# Altium footprint library Индикаторы.PcbLib: 8 footprints
Each footprint in its own frame and in the unit in brackets; x right, y up, seen from the top. Pads: shape width x height; smd on the part's side, far side on the other; paste and mask are expansions set on the pad; w line width, h text height; cw(c..) or ccw(c..) is an arc to the next point about the centre after c.
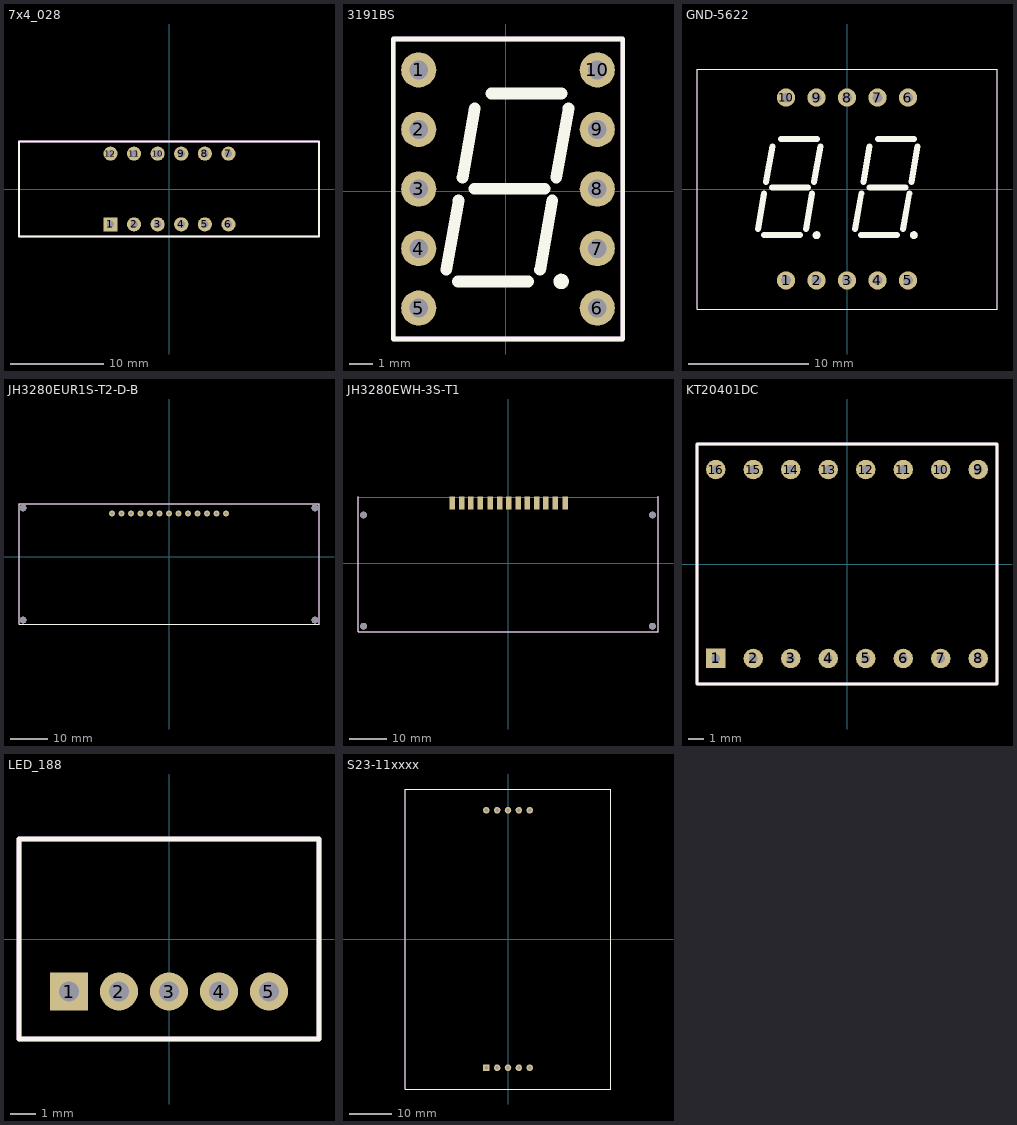
[diagram p0: the footprints below, top view; thin cyan lines are the x and y axes]

## 7x4_028 [mil]
pads (12):
  rect 60x60 hole 31.5: 1(-250,-150)
  round 60 hole 31.5: 2(-150,-150) 3(-50,-150) 4(50,-150) 5(150,-150) 6(250,-150) 7(250,150) 8(150,150) 9(50,150) 10(-50,150) 11(-150,150) 12(-250,150)
Top Overlay:
  lines w7.87: -637.8,-200.79 -637.8,200.79 633.86,200.79 633.86,-200.79 -637.8,-200.79
TopAssy:
  lines w7.87: -637.8,-200.79 633.86,-200.79 633.86,200.79 -637.8,200.79 -637.8,-200.79
  text ".Designator" at -196.85,3.94 h60
3D body "4x7_028.STEP": height 228.35, standoff -39.37, extent -633.85,-198.81 633.87,198.83

## 3191BS [mm]
height 1.5
pads (10):
  round 1.5 hole 0.8: 1(-3.71,5.18) 2(-3.71,2.64) 3(-3.71,0.1) 4(-3.71,-2.44) 5(-3.71,-4.98) 6(3.91,-4.98) 7(3.91,-2.44) 8(3.91,0.1) 9(3.91,2.64) 10(3.91,5.18)
Top Overlay:
  circle w0.15: c2.365,-3.845 r0.257
  circle w0.15: c2.365,-3.845 r0.141
  circle w0.15: c2.365,-3.845 r0.079
  lines w0.2: 2.365,-3.845 2.506,-3.845 ; -4.8,-6.3 5,-6.3 5,6.5 -4.8,6.5 -4.8,-6.3
  lines w0.5: -2.531,-3.345 -2.011,-0.391 ; -2.032,-3.845 0.968,-3.845 ; -1.837,0.594 -1.316,3.549 ; -1.335,0.105 1.665,0.105 ; -0.618,4.17 2.382,4.17 ; 1.469,-3.345 1.989,-0.391 ; 2.163,0.594 2.684,3.549
TopAssy:
  lines w0.2: -4.8,-6.3 -4.8,6.5 5,6.5 5,-6.3 -4.8,-6.3
3D body "User Library-INND-TS40RCB.STEP": height 6.43, standoff -5.33, extent -4.7,-6.37 4.93,6.53

## GND-5622 [mil]
pads (10):
  round 60 hole 31.5: 1(-200,-300) 2(-100,-300) 3(0,-300) 4(100,-300) 5(200,-300) 6(200,300) 7(100,300) 8(0,300) 9(-100,300) 10(-200,300)
Top Overlay:
  circle w5.91: c-99.8,-151.38 r10.13
  circle w5.91: c-99.8,-151.38 r5.57
  circle w5.91: c-99.8,-151.38 r3.11
  circle w5.91: c219.09,-151.38 r10.13
  circle w5.91: c219.09,-151.38 r5.57
  circle w5.91: c219.09,-151.38 r3.11
  lines w3.94: -492.13,-393.7 -492.13,0 -492.13,393.7 492.13,393.7 492.13,0 492.13,-393.7 -492.13,-393.7
  lines w7.87: -99.8,-151.38 -94.24,-151.38 ; 219.09,-151.38 224.66,-151.38
  lines w19.68: -292.58,-131.69 -272.07,-15.38 ; -272.89,-151.38 -154.78,-151.38 ; -265.23,23.39 -244.72,139.71 ; -245.47,4.13 -127.36,4.13 ; -217.25,164.18 -99.14,164.18 ; -135.1,-131.69 -114.59,-15.38 ; -107.75,23.39 -87.24,139.71 ; 26.32,-131.69 46.83,-15.38 ; 46,-151.38 164.11,-151.38 ; 53.67,23.39 74.18,139.71 ; 73.43,4.13 191.54,4.13 ; 101.65,164.18 219.76,164.18 ; 183.8,-131.69 204.31,-15.38 ; 211.15,23.39 231.66,139.71
TopAssy:
  lines w3.94: -492.13,-393.7 492.13,-393.7 492.13,393.7 -492.13,393.7 -492.13,-393.7
  text ".Designator" at -102.36,-19.68 h60
3D body "Светодиодный индикатор GND-5622AS-21.stp": height 318.9, standoff -242.34, extent -488.19,-374.02 496.06,374.02

## JH3280EUR1S-T2-D-B [mm]
pads (17):
  round 1.8 hole 1.8 unplated: 0(-39,-17) 0(-39,13) 0(39,-17) 0(39,13)
  round 1.524 hole 0.8: 1(-15.24,11.5) 2(-12.7,11.5) 3(-10.16,11.5) 4(-7.62,11.5) 5(-5.08,11.5) 6(-2.54,11.5) 7(0,11.5) 8(2.54,11.5) 9(5.08,11.5) 10(7.62,11.5) 11(10.16,11.5) 12(12.7,11.5) 13(15.24,11.5)
Top Overlay:
  lines w0.2: -40.1,-18.1 40.1,-18.1 40.1,14.1 -40.1,14.1 -40.1,-18.1
TopAssy:
  lines w0.2: -40.1,-18.1 40.1,-18.1 40.1,14.1 -40.1,14.1 -40.1,-18.1
  text ".Designator" at -2.5,-0.4 h1.52
3D body "Индикатор JH3280EUR1S-T2-D-B.stp": height 13.8, standoff -4.2, extent -40.1,-17.9 39.9,14.1

## JH3280EWH-3S-T1 [mm]
pads (17):
  round 1.8 hole 1.8 unplated: 0(-39,-17) 0(-39,13) 0(39,-17) 0(39,13)
  rect 1.5x3.6 smd: 1(-15,16.25) 2(-12.5,16.25) 3(-10,16.25) 4(-7.5,16.25) 5(-4.75,16.25) 6(-2.25,16.25) 7(0.25,16.25) 8(2.75,16.25) 9(5.25,16.25) 10(7.75,16.25) 11(10.25,16.25) 12(12.75,16.25) 13(15.5,16.25)
Top Overlay:
  lines w0.2: -40.5,18 -40.5,-18.5 40.5,-18.5 40.5,18
TopAssy:
  lines w0.2: -40.5,17.75 40.5,17.75 40.5,-18.5 -40.5,-18.5 -40.5,18
  text ".Designator" at -2.5,-0.4 h1.52
3D body "Индикатор JH3280EWH-3S-T1.stp": height 14.5, standoff -1.5, extent -39.9,-18 40.1,17.85

## KT20401DC [mm]
pads (16):
  rect 1.3x1.3 hole 0.6: 1(-8.75,-6.3)
  round 1.3 hole 0.6: 2(-6.25,-6.3) 3(-3.75,-6.3) 4(-1.25,-6.3) 5(1.25,-6.3) 6(3.75,-6.3) 7(6.25,-6.3) 8(8.75,-6.3) 9(8.75,6.3) 10(6.25,6.3) 11(3.75,6.3) 12(1.25,6.3) 13(-1.25,6.3) 14(-3.75,6.3) 15(-6.25,6.3) 16(-8.75,6.3)
Top Overlay:
  lines w0.2: -10,-8 -10,8 10,8 10,-8 -10,-8
TopAssy:
  lines w0.2: -10,-8 -10,8 10,8 10,-8 -10,-8
  text ".Designator" at -3.15,-0.5 h1.52
3D body "KT20401DC.stp": height 7, standoff -2.5, extent -10,-8 10,8

## LED_188 [mm]
pads (5):
  rect 1.524x1.524 hole 0.8: 1(-4,-2.1)
  round 1.524 hole 0.8: 2(-2,-2.1) 3(0,-2.1) 4(2,-2.1) 5(4,-2.1)
Top Overlay:
  lines w0.2: -6,-4 6,-4 6,4 -6,4 -6,-4
TopAssy:
  lines w0.2: -6,-4 6,-4 6,4 -6,4 -6,-4
  text ".Designator" at -3.25,-0.4 h1.52
3D body "Индикатор 188.stp": height 3, standoff -3, extent -6,-4 6,4

## S23-11xxxx [mil]
pads (10):
  rect 60x60 hole 30: 1(-200,-1183.07)
  round 60 hole 30: 2(-100,-1183.07) 3(0,-1183.07) 4(100,-1183.07) 5(200,-1183.07)
  round 60 hole 31.5: 6(200,1183.07) 7(100,1183.07) 8(0,1183.07) 9(-100,1183.07) 10(-200,1183.07)
Top Overlay:
  lines w3.94: -944.88,-1377.95 -944.88,1377.95 944.88,1377.95 944.88,-1377.95 -944.88,-1377.95
TopAssy:
  lines w3.94: -944.88,-1377.95 944.88,-1377.95 944.88,1377.95 -944.88,1377.95 -944.88,-1377.95
  text ".Designator" at -133.86,-19.68 h60
3D body "SA23-11.step": height 472.44, standoff -118.11, extent -944.88,-1377.95 944.89,1377.96